# Altium schematic symbol library L7805.SchLib: 1 symbol
Pins are listed as number, name and electrical type; pins without a type are passive.

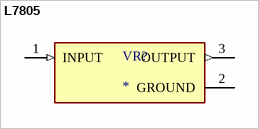
[diagram p0: symbol L7805]

## L7805
designator VR?
Standard Regulator Pos 5V 1.5A 3-Pin(3+Tab) TO-220FP Tube; MP: L7805; MF: STMicroelectronics; Value: *; SnapEDA_Link: https://www.snapeda.com/parts/L7805/STMicroelectronics/view-part/?ref=snap; Price: None; Package: None; Check_prices: https://www.snapeda.com/parts/L7805/STMicroelectronics/view-part/?ref=eda; Availability: Not in stock
footprint TO255P1020X450X2000-3
pins: 1 INPUT (in), 2 GROUND (power), 3 OUTPUT (out)